# EAGLE library part MCR1101 (library MCR1101)
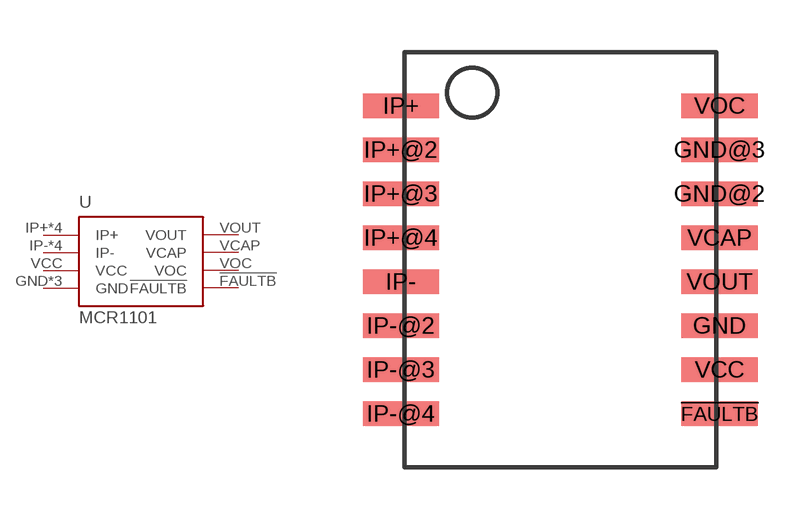
[diagram p0: symbol with the pads of MCR1101; footprint MCR1101]

Designator prefix -

## MCR1101  [MCR1101]
!FAULTB  !FAULTB
GND  GND
GND@2  GND
GND@3  GND
IP+  IP+
IP+@2  IP+
IP+@3  IP+
IP+@4  IP+
IP-  IP-
IP-@2  IP-
IP-@3  IP-
IP-@4  IP-
VCAP  VCAP
VCC  VCC
VOC  VOC
VOUT  VOUT

## Footprint MCR1101 (pad centres in mm)
smd 2.2 x 0.7: !FAULTB 4.6,-4.445; GND 4.6,-1.905; GND@2 4.6,1.905; GND@3 4.6,3.175; IP+ -4.6,4.445; IP+@2 -4.6,3.175; IP+@3 -4.6,1.905; IP+@4 -4.6,0.635; IP- -4.6,-0.635; IP-@2 -4.6,-1.905; IP-@3 -4.6,-3.175; IP-@4 -4.6,-4.445; VCAP 4.6,0.635; VCC 4.6,-3.175; VOC 4.6,4.445; VOUT 4.6,-0.635